# Altium footprint library WANGYU92100PcbLib.PcbLib: 392 footprints (part 12 of 25)
Each footprint in its own frame and in the unit in brackets; x right, y up, seen from the top. Pads: shape width x height; smd on the part's side, far side on the other; paste and mask are expansions set on the pad; w line width, h text height; cw(c..) or ccw(c..) is an arc to the next point about the centre after c.
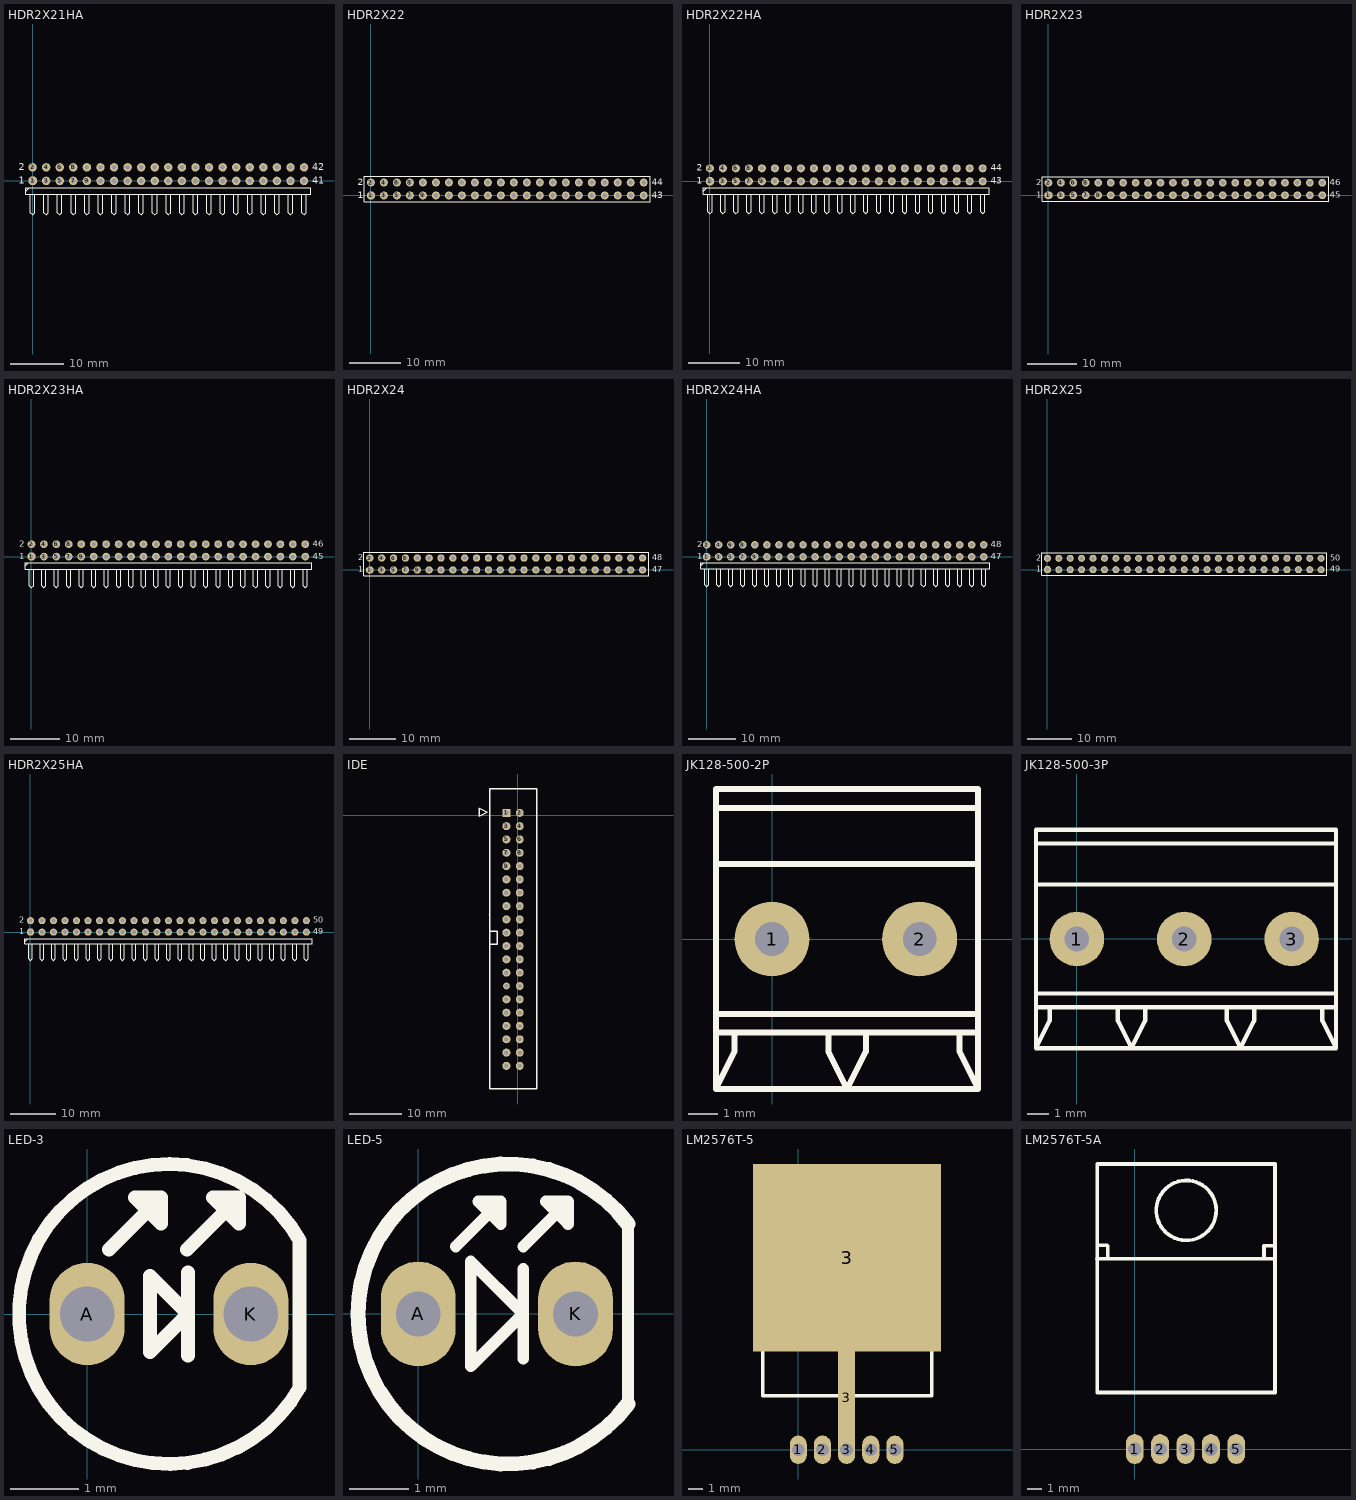
[diagram p11: the footprints below, top view; thin cyan lines are the x and y axes]

## HDR2X21HA [mil]
pads (42):
  oct 62x62 hole 35: 1(0,0)
  round 62 hole 35: 2(0,100) 3(100,0) 4(100,100) 5(200,0) 6(200,100) 7(300,0) 8(300,100) 9(400,0) 10(400,100) 11(500,0) 12(500,100) 13(600,0) 14(600,100) 15(700,0) 16(700,100) 17(800,0) 18(800,100) 19(900,0) 20(900,100) 21(1000,0) 22(1000,100) 23(1100,0) 24(1100,100) 25(1200,0) 26(1200,100) 27(1300,0) 28(1300,100) 29(1400,0) 30(1400,100) 31(1500,0) 32(1500,100) 33(1600,0) 34(1600,100) 35(1700,0) 36(1700,100) 37(1800,0) 38(1800,100) 39(1900,0) 40(1900,100) 41(2000,0) 42(2000,100)
Top Overlay:
  lines w8: -50,-75 -25,-50 ; -16.67,-100 -16.67,-233.33 0,-250 16.67,-233.33 16.67,-100 ; 83.33,-100 83.33,-233.33 100,-250 116.67,-233.33 116.67,-100 ; 183.33,-100 183.33,-233.33 200,-250 216.67,-233.33 216.67,-100 ; 283.33,-100 283.33,-233.33 300,-250 316.67,-233.33 316.67,-100 ; 383.33,-100 383.33,-233.33 400,-250 416.67,-233.33 416.67,-100 ; 483.33,-100 483.33,-233.33 500,-250 516.67,-233.33 516.67,-100 ; 583.33,-100 583.33,-233.33 600,-250 616.67,-233.33 616.67,-100 ; 683.33,-100 683.33,-233.33 700,-250 716.67,-233.33 716.67,-100 ; 783.33,-100 783.33,-233.33 800,-250 816.67,-233.33 816.67,-100 ; 883.33,-100 883.33,-233.33 900,-250 916.67,-233.33 916.67,-100 ; 983.33,-100 983.33,-233.33 1000,-250 1016.67,-233.33 1016.67,-100 ; 1083.33,-100 1083.33,-233.33 1100,-250 1116.67,-233.33 1116.67,-100 ; 1183.33,-100 1183.33,-233.33 1200,-250 1216.67,-233.33 1216.67,-100 ; 1283.33,-100 1283.33,-233.33 1300,-250 1316.67,-233.33 1316.67,-100 ; 1383.33,-100 1383.33,-233.33 1400,-250 1416.67,-233.33 1416.67,-100 ; 1483.33,-100 1483.33,-233.33 1500,-250 1516.67,-233.33 1516.67,-100 ; 1583.33,-100 1583.33,-233.33 1600,-250 1616.67,-233.33 1616.67,-100 ; 1683.33,-100 1683.33,-233.33 1700,-250 1716.67,-233.33 1716.67,-100 ; 1783.33,-100 1783.33,-233.33 1800,-250 1816.67,-233.33 1816.67,-100 ; 1883.33,-100 1883.33,-233.33 1900,-250 1916.67,-233.33 1916.67,-100 ; 1983.33,-100 1983.33,-233.33 2000,-250 2016.67,-233.33 2016.67,-100 ; -50,-100 -50,-50 2050,-50 2050,-100 -50,-100
  text "41" at 2060,-20 h50
  text "42" at 2060,80 h50
  text "1" at -100,-20 h50
  text "2" at -100,80 h50

## HDR2X22 [mil]
pads (44):
  oct 62x62 hole 35: 1(0,0)
  round 62 hole 35: 2(0,100) 3(100,0) 4(100,100) 5(200,0) 6(200,100) 7(300,0) 8(300,100) 9(400,0) 10(400,100) 11(500,0) 12(500,100) 13(600,0) 14(600,100) 15(700,0) 16(700,100) 17(800,0) 18(800,100) 19(900,0) 20(900,100) 21(1000,0) 22(1000,100) 23(1100,0) 24(1100,100) 25(1200,0) 26(1200,100) 27(1300,0) 28(1300,100) 29(1400,0) 30(1400,100) 31(1500,0) 32(1500,100) 33(1600,0) 34(1600,100) 35(1700,0) 36(1700,100) 37(1800,0) 38(1800,100) 39(1900,0) 40(1900,100) 41(2000,0) 42(2000,100) 43(2100,0) 44(2100,100)
Top Overlay:
  lines w8: -50,-50 2150,-50 2150,150 -50,150 -50,-50
  text "2" at -100,80 h50
  text "1" at -100,-20 h50
  text "44" at 2160,80 h50
  text "43" at 2160,-20 h50

## HDR2X22HA [mil]
pads (44):
  oct 62x62 hole 35: 1(0,0)
  round 62 hole 35: 2(0,100) 3(100,0) 4(100,100) 5(200,0) 6(200,100) 7(300,0) 8(300,100) 9(400,0) 10(400,100) 11(500,0) 12(500,100) 13(600,0) 14(600,100) 15(700,0) 16(700,100) 17(800,0) 18(800,100) 19(900,0) 20(900,100) 21(1000,0) 22(1000,100) 23(1100,0) 24(1100,100) 25(1200,0) 26(1200,100) 27(1300,0) 28(1300,100) 29(1400,0) 30(1400,100) 31(1500,0) 32(1500,100) 33(1600,0) 34(1600,100) 35(1700,0) 36(1700,100) 37(1800,0) 38(1800,100) 39(1900,0) 40(1900,100) 41(2000,0) 42(2000,100) 43(2100,0) 44(2100,100)
Top Overlay:
  lines w8: -50,-75 -25,-50 ; -16.67,-100 -16.67,-233.33 0,-250 16.67,-233.33 16.67,-100 ; 83.33,-100 83.33,-233.33 100,-250 116.67,-233.33 116.67,-100 ; 183.33,-100 183.33,-233.33 200,-250 216.67,-233.33 216.67,-100 ; 283.33,-100 283.33,-233.33 300,-250 316.67,-233.33 316.67,-100 ; 383.33,-100 383.33,-233.33 400,-250 416.67,-233.33 416.67,-100 ; 483.33,-100 483.33,-233.33 500,-250 516.67,-233.33 516.67,-100 ; 583.33,-100 583.33,-233.33 600,-250 616.67,-233.33 616.67,-100 ; 683.33,-100 683.33,-233.33 700,-250 716.67,-233.33 716.67,-100 ; 783.33,-100 783.33,-233.33 800,-250 816.67,-233.33 816.67,-100 ; 883.33,-100 883.33,-233.33 900,-250 916.67,-233.33 916.67,-100 ; 983.33,-100 983.33,-233.33 1000,-250 1016.67,-233.33 1016.67,-100 ; 1083.33,-100 1083.33,-233.33 1100,-250 1116.67,-233.33 1116.67,-100 ; 1183.33,-100 1183.33,-233.33 1200,-250 1216.67,-233.33 1216.67,-100 ; 1283.33,-100 1283.33,-233.33 1300,-250 1316.67,-233.33 1316.67,-100 ; 1383.33,-100 1383.33,-233.33 1400,-250 1416.67,-233.33 1416.67,-100 ; 1483.33,-100 1483.33,-233.33 1500,-250 1516.67,-233.33 1516.67,-100 ; 1583.33,-100 1583.33,-233.33 1600,-250 1616.67,-233.33 1616.67,-100 ; 1683.33,-100 1683.33,-233.33 1700,-250 1716.67,-233.33 1716.67,-100 ; 1783.33,-100 1783.33,-233.33 1800,-250 1816.67,-233.33 1816.67,-100 ; 1883.33,-100 1883.33,-233.33 1900,-250 1916.67,-233.33 1916.67,-100 ; 1983.33,-100 1983.33,-233.33 2000,-250 2016.67,-233.33 2016.67,-100 ; 2083.33,-100 2083.33,-233.33 2100,-250 2116.67,-233.33 2116.67,-100 ; -50,-100 2150,-100 2150,-50 -50,-50 -50,-100
  text "44" at 2160,80 h50
  text "43" at 2160,-20 h50
  text "1" at -100,-20 h50
  text "2" at -100,80 h50

## HDR2X23 [mil]
pads (46):
  oct 62x62 hole 35: 1(0,0)
  round 62 hole 35: 2(0,100) 3(100,0) 4(100,100) 5(200,0) 6(200,100) 7(300,0) 8(300,100) 9(400,0) 10(400,100) 11(500,0) 12(500,100) 13(600,0) 14(600,100) 15(700,0) 16(700,100) 17(800,0) 18(800,100) 19(900,0) 20(900,100) 21(1000,0) 22(1000,100) 23(1100,0) 24(1100,100) 25(1200,0) 26(1200,100) 27(1300,0) 28(1300,100) 29(1400,0) 30(1400,100) 31(1500,0) 32(1500,100) 33(1600,0) 34(1600,100) 35(1700,0) 36(1700,100) 37(1800,0) 38(1800,100) 39(1900,0) 40(1900,100) 41(2000,0) 42(2000,100) 43(2100,0) 44(2100,100) 45(2200,0) 46(2200,100)
Top Overlay:
  lines w8: -50,-50 2250,-50 2250,150 -50,150 -50,-50
  text "46" at 2260,80 h50
  text "45" at 2260,-20 h50
  text "1" at -100,-20 h50
  text "2" at -100,80 h50

## HDR2X23HA [mil]
pads (46):
  oct 62x62 hole 35: 1(0,0)
  round 62 hole 35: 2(0,100) 3(100,0) 4(100,100) 5(200,0) 6(200,100) 7(300,0) 8(300,100) 9(400,0) 10(400,100) 11(500,0) 12(500,100) 13(600,0) 14(600,100) 15(700,0) 16(700,100) 17(800,0) 18(800,100) 19(900,0) 20(900,100) 21(1000,0) 22(1000,100) 23(1100,0) 24(1100,100) 25(1200,0) 26(1200,100) 27(1300,0) 28(1300,100) 29(1400,0) 30(1400,100) 31(1500,0) 32(1500,100) 33(1600,0) 34(1600,100) 35(1700,0) 36(1700,100) 37(1800,0) 38(1800,100) 39(1900,0) 40(1900,100) 41(2000,0) 42(2000,100) 43(2100,0) 44(2100,100) 45(2200,0) 46(2200,100)
Top Overlay:
  lines w8: -50,-75 -25,-50 ; -16.67,-100 -16.67,-233.33 0,-250 16.67,-233.33 16.67,-100 ; 83.33,-100 83.33,-233.33 100,-250 116.67,-233.33 116.67,-100 ; 183.33,-100 183.33,-233.33 200,-250 216.67,-233.33 216.67,-100 ; 283.33,-100 283.33,-233.33 300,-250 316.67,-233.33 316.67,-100 ; 383.33,-100 383.33,-233.33 400,-250 416.67,-233.33 416.67,-100 ; 483.33,-100 483.33,-233.33 500,-250 516.67,-233.33 516.67,-100 ; 583.33,-100 583.33,-233.33 600,-250 616.67,-233.33 616.67,-100 ; 683.33,-100 683.33,-233.33 700,-250 716.67,-233.33 716.67,-100 ; 783.33,-100 783.33,-233.33 800,-250 816.67,-233.33 816.67,-100 ; 883.33,-100 883.33,-233.33 900,-250 916.67,-233.33 916.67,-100 ; 983.33,-100 983.33,-233.33 1000,-250 1016.67,-233.33 1016.67,-100 ; 1083.33,-100 1083.33,-233.33 1100,-250 1116.67,-233.33 1116.67,-100 ; 1183.33,-100 1183.33,-233.33 1200,-250 1216.67,-233.33 1216.67,-100 ; 1283.33,-100 1283.33,-233.33 1300,-250 1316.67,-233.33 1316.67,-100 ; 1383.33,-100 1383.33,-233.33 1400,-250 1416.67,-233.33 1416.67,-100 ; 1483.33,-100 1483.33,-233.33 1500,-250 1516.67,-233.33 1516.67,-100 ; 1583.33,-100 1583.33,-233.33 1600,-250 1616.67,-233.33 1616.67,-100 ; 1683.33,-100 1683.33,-233.33 1700,-250 1716.67,-233.33 1716.67,-100 ; 1783.33,-100 1783.33,-233.33 1800,-250 1816.67,-233.33 1816.67,-100 ; 1883.33,-100 1883.33,-233.33 1900,-250 1916.67,-233.33 1916.67,-100 ; 1983.33,-100 1983.33,-233.33 2000,-250 2016.67,-233.33 2016.67,-100 ; 2083.33,-100 2083.33,-233.33 2100,-250 2116.67,-233.33 2116.67,-100 ; 2183.33,-100 2183.33,-233.33 2200,-250 2216.67,-233.33 2216.67,-100 ; -50,-100 2250,-100 2250,-50 -50,-50 -50,-100
  text "46" at 2260,80 h50
  text "45" at 2260,-20 h50
  text "1" at -100,-20 h50
  text "2" at -100,80 h50

## HDR2X24 [mil]
pads (48):
  oct 62x62 hole 35: 1(0,0)
  round 62 hole 35: 2(0,100) 3(100,0) 4(100,100) 5(200,0) 6(200,100) 7(300,0) 8(300,100) 9(400,0) 10(400,100) 11(500,0) 12(500,100) 13(600,0) 14(600,100) 15(700,0) 16(700,100) 17(800,0) 18(800,100) 19(900,0) 20(900,100) 21(1000,0) 22(1000,100) 23(1100,0) 24(1100,100) 25(1200,0) 26(1200,100) 27(1300,0) 28(1300,100) 29(1400,0) 30(1400,100) 31(1500,0) 32(1500,100) 33(1600,0) 34(1600,100) 35(1700,0) 36(1700,100) 37(1800,0) 38(1800,100) 39(1900,0) 40(1900,100) 41(2000,0) 42(2000,100) 43(2100,0) 44(2100,100) 45(2200,0) 46(2200,100) 47(2300,0) 48(2300,100)
Top Overlay:
  lines w8: -50,-50 -50,150 2350,150 2350,-50 -50,-50
  text "47" at 2380,-20 h50
  text "48" at 2380,80 h50
  text "1" at -100,-20 h50
  text "2" at -100,80 h50

## HDR2X24HA [mil]
pads (48):
  oct 62x62 hole 35: 1(0,0)
  round 62 hole 35: 2(0,100) 3(100,0) 4(100,100) 5(200,0) 6(200,100) 7(300,0) 8(300,100) 9(400,0) 10(400,100) 11(500,0) 12(500,100) 13(600,0) 14(600,100) 15(700,0) 16(700,100) 17(800,0) 18(800,100) 19(900,0) 20(900,100) 21(1000,0) 22(1000,100) 23(1100,0) 24(1100,100) 25(1200,0) 26(1200,100) 27(1300,0) 28(1300,100) 29(1400,0) 30(1400,100) 31(1500,0) 32(1500,100) 33(1600,0) 34(1600,100) 35(1700,0) 36(1700,100) 37(1800,0) 38(1800,100) 39(1900,0) 40(1900,100) 41(2000,0) 42(2000,100) 43(2100,0) 44(2100,100) 45(2200,0) 46(2200,100) 47(2300,0) 48(2300,100)
Top Overlay:
  lines w8: -50,-75 -25,-50 ; -16.67,-100 -16.67,-233.33 0,-250 16.67,-233.33 16.67,-100 ; 83.33,-100 83.33,-233.33 100,-250 116.67,-233.33 116.67,-100 ; 183.33,-100 183.33,-233.33 200,-250 216.67,-233.33 216.67,-100 ; 283.33,-100 283.33,-233.33 300,-250 316.67,-233.33 316.67,-100 ; 383.33,-100 383.33,-233.33 400,-250 416.67,-233.33 416.67,-100 ; 483.33,-100 483.33,-233.33 500,-250 516.67,-233.33 516.67,-100 ; 583.33,-100 583.33,-233.33 600,-250 616.67,-233.33 616.67,-100 ; 683.33,-100 683.33,-233.33 700,-250 716.67,-233.33 716.67,-100 ; 783.33,-100 783.33,-233.33 800,-250 816.67,-233.33 816.67,-100 ; 883.33,-100 883.33,-233.33 900,-250 916.67,-233.33 916.67,-100 ; 983.33,-100 983.33,-233.33 1000,-250 1016.67,-233.33 1016.67,-100 ; 1083.33,-100 1083.33,-233.33 1100,-250 1116.67,-233.33 1116.67,-100 ; 1183.33,-100 1183.33,-233.33 1200,-250 1216.67,-233.33 1216.67,-100 ; 1283.33,-100 1283.33,-233.33 1300,-250 1316.67,-233.33 1316.67,-100 ; 1383.33,-100 1383.33,-233.33 1400,-250 1416.67,-233.33 1416.67,-100 ; 1483.33,-100 1483.33,-233.33 1500,-250 1516.67,-233.33 1516.67,-100 ; 1583.33,-100 1583.33,-233.33 1600,-250 1616.67,-233.33 1616.67,-100 ; 1683.33,-100 1683.33,-233.33 1700,-250 1716.67,-233.33 1716.67,-100 ; 1783.33,-100 1783.33,-233.33 1800,-250 1816.67,-233.33 1816.67,-100 ; 1883.33,-100 1883.33,-233.33 1900,-250 1916.67,-233.33 1916.67,-100 ; 1983.33,-100 1983.33,-233.33 2000,-250 2016.67,-233.33 2016.67,-100 ; 2083.33,-100 2083.33,-233.33 2100,-250 2116.67,-233.33 2116.67,-100 ; 2183.33,-100 2183.33,-233.33 2200,-250 2216.67,-233.33 2216.67,-100 ; 2283.33,-100 2283.33,-233.33 2300,-250 2316.67,-233.33 2316.67,-100 ; -50,-100 2350,-100 2350,-50 -50,-50 -50,-100
  text "2" at -80,80 h50
  text "1" at -80,-20 h50
  text "47" at 2360,-20 h50
  text "48" at 2360,80 h50

## HDR2X25 [mil]
pads (50):
  oct 62x62 hole 35: 1(0,0)
  round 62 hole 35: 2(0,100) 3(100,0) 4(100,100) 5(200,0) 6(200,100) 7(300,0) 8(300,100) 9(400,0) 10(400,100) 11(500,0) 12(500,100) 13(600,0) 14(600,100) 15(700,0) 16(700,100) 17(800,0) 18(800,100) 19(900,0) 20(900,100) 21(1000,0) 22(1000,100) 23(1100,0) 24(1100,100) 25(1200,0) 26(1200,100) 27(1300,0) 28(1300,100) 29(1400,0) 30(1400,100) 31(1500,0) 32(1500,100) 33(1600,0) 34(1600,100) 35(1700,0) 36(1700,100) 37(1800,0) 38(1800,100) 39(1900,0) 40(1900,100) 41(2000,0) 42(2000,100) 43(2100,0) 44(2100,100) 45(2200,0) 46(2200,100) 47(2300,0) 48(2300,100) 49(2400,0) 50(2400,100)
Top Overlay:
  lines w8: -50,-50 2450,-50 2450,150 -50,150 -50,-50
  text "50" at 2480,80 h50
  text "49" at 2480,-20 h50
  text "1" at -100,-20 h50
  text "2" at -100,80 h50

## HDR2X25HA [mil]
pads (50):
  oct 62x62 hole 35: 1(0,0)
  round 62 hole 35: 2(0,100) 3(100,0) 4(100,100) 5(200,0) 6(200,100) 7(300,0) 8(300,100) 9(400,0) 10(400,100) 11(500,0) 12(500,100) 13(600,0) 14(600,100) 15(700,0) 16(700,100) 17(800,0) 18(800,100) 19(900,0) 20(900,100) 21(1000,0) 22(1000,100) 23(1100,0) 24(1100,100) 25(1200,0) 26(1200,100) 27(1300,0) 28(1300,100) 29(1400,0) 30(1400,100) 31(1500,0) 32(1500,100) 33(1600,0) 34(1600,100) 35(1700,0) 36(1700,100) 37(1800,0) 38(1800,100) 39(1900,0) 40(1900,100) 41(2000,0) 42(2000,100) 43(2100,0) 44(2100,100) 45(2200,0) 46(2200,100) 47(2300,0) 48(2300,100) 49(2400,0) 50(2400,100)
Top Overlay:
  lines w8: -50,-83.33 -25,-58.33 ; -16.67,-100 -16.67,-233.33 0,-250 16.67,-233.33 16.67,-100 ; 83.33,-100 83.33,-233.33 100,-250 116.67,-233.33 116.67,-100 ; 183.33,-100 183.33,-233.33 200,-250 216.67,-233.33 216.67,-100 ; 283.33,-100 283.33,-233.33 300,-250 316.67,-233.33 316.67,-100 ; 383.33,-100 383.33,-233.33 400,-250 416.67,-233.33 416.67,-100 ; 483.33,-100 483.33,-233.33 500,-250 516.67,-233.33 516.67,-100 ; 583.33,-100 583.33,-233.33 600,-250 616.67,-233.33 616.67,-100 ; 683.33,-100 683.33,-233.33 700,-250 716.67,-233.33 716.67,-100 ; 783.33,-100 783.33,-233.33 800,-250 816.67,-233.33 816.67,-100 ; 883.33,-100 883.33,-233.33 900,-250 916.67,-233.33 916.67,-100 ; 983.33,-100 983.33,-233.33 1000,-250 1016.67,-233.33 1016.67,-100 ; 1083.33,-100 1083.33,-233.33 1100,-250 1116.67,-233.33 1116.67,-100 ; 1183.33,-100 1183.33,-233.33 1200,-250 1216.67,-233.33 1216.67,-100 ; 1283.33,-100 1283.33,-233.33 1300,-250 1316.67,-233.33 1316.67,-100 ; 1383.33,-100 1383.33,-233.33 1400,-250 1416.67,-233.33 1416.67,-100 ; 1483.33,-100 1483.33,-233.33 1500,-250 1516.67,-233.33 1516.67,-100 ; 1583.33,-100 1583.33,-233.33 1600,-250 1616.67,-233.33 1616.67,-100 ; 1683.33,-100 1683.33,-233.33 1700,-250 1716.67,-233.33 1716.67,-100 ; 1783.33,-100 1783.33,-233.33 1800,-250 1816.67,-233.33 1816.67,-100 ; 1883.33,-100 1883.33,-233.33 1900,-250 1916.67,-233.33 1916.67,-100 ; 1983.33,-100 1983.33,-233.33 2000,-250 2016.67,-233.33 2016.67,-100 ; 2083.33,-100 2083.33,-233.33 2100,-250 2116.67,-233.33 2116.67,-100 ; 2183.33,-100 2183.33,-233.33 2200,-250 2216.67,-233.33 2216.67,-100 ; 2283.33,-100 2283.33,-233.33 2300,-250 2316.67,-233.33 2316.67,-100 ; 2383.33,-100 2383.33,-233.33 2400,-250 2416.67,-233.33 2416.67,-100 ; -50,-100 -50,-58.33 2450,-58.33 2450,-100 -50,-100
  text "2" at -100,80 h50
  text "1" at -100,-20 h50
  text "49" at 2460,-20 h50
  text "50" at 2460,80 h50

## IDE [mil]
pads (40):
  rect 60x60 hole 33: 1(-86.18,17.24)
  round 60 hole 33: 2(13.82,17.24) 3(-86.18,-82.76) 4(13.82,-82.76) 5(-86.18,-182.76) 6(13.82,-182.76) 7(-86.18,-282.76) 8(13.82,-282.76) 9(-86.18,-382.76) 10(13.82,-382.76) 11(-86.18,-482.76) 12(13.82,-482.76) 13(-86.18,-582.76) 14(13.82,-582.76) 15(-86.18,-682.76) 16(13.82,-682.76) 17(-86.18,-782.76) 18(13.82,-782.76) 19(-86.18,-882.76) 20(13.82,-882.76) 21(-86.18,-982.76) 22(13.82,-982.76) 23(-86.18,-1082.76) 24(13.82,-1082.76) 25(-86.18,-1182.76) 26(13.82,-1182.76) 28(13.82,-1282.76) 29(-86.18,-1382.76) 30(13.82,-1382.76) 31(-86.18,-1482.76) 32(13.82,-1482.76) 33(-86.18,-1582.76) 34(13.82,-1582.76) 35(-86.18,-1682.76) 36(13.82,-1682.76) 37(-86.18,-1782.76) 38(13.82,-1782.76) 39(-86.18,-1882.76) 40(13.82,-1882.76)
  round 51.18 hole 27.56: 27(-86.18,-1282.76)
Top Overlay:
  lines w10: -215.63,-870 -155,-870 -155,-970 -213.27,-970 ; -213.74,-746.53 -211.38,-744.17 ; -290.96,-8.5 -290.96,51.5 -230.96,21.5 -290.96,-8.5 ; -212.16,-2055.98 142.16,-2055.98 142.16,195.98 -212.16,195.98 -212.16,-2055.98

## JK128-500-2P [mil]
pads (2):
  round 100 hole 45: 1(0,0) 2(196.85,0)
Top Overlay:
  lines w8: -75,-125 275,-125 ; -75,-100 275,-100 ; -75,100 275,100 ; -75,175 275,175 ; -50,-125 -50,-150 -75,-200 ; 75,-125 75,-150 100,-200 125,-150 125,-125 ; 250,-125 250,-150 275,-200 ; -75,-200 -75,200 275,200 275,-200 ; -75,-200 275,-200

## JK128-500-3P [mil]
pads (3):
  round 100 hole 45: 1(0,-0.02) 2(196.85,-0.02) 3(393.7,-0.02)
Top Overlay:
  lines w8: -75,-125.02 225,-125.02 275,-125.02 275,-150.02 300,-200.02 325,-150.02 325,-125.02 ; -75,99.98 225,99.98 275,99.98 ; -75,174.98 225,174.98 275,174.98 ; -50,-125.02 -50,-150.02 -75,-200.02 ; 75,-125.02 75,-150.02 100,-200.02 125,-150.02 125,-125.02 425,-125.02 475,-125.02 ; 125,-200.02 425,-200.02 475,-200.02 ; 125,-100.02 425,-100.02 475,-100.02 ; 125,99.98 425,99.98 475,99.98 ; 125,174.98 425,174.98 475,174.98 ; 125,199.98 425,199.98 475,199.98 475,149.98 475,-150.02 475,-200.02 ; 275,-200.02 225,-200.02 -75,-200.02 ; 275,-100.02 225,-100.02 -75,-100.02 ; 275,199.98 225,199.98 -75,199.98 -75,-100.02 ; 450,-125.02 450,-150.02 475,-200.02 ; -75,-200.02 -75,-100.02

## LED-3 [mm]
pads (2):
  oval 1.1x1.5 hole 0.8: A(0,0) K(2.4,0)
Top Overlay:
  lines w0.203: 0.322,0.946 1.084,1.708 ; 1.465,0.946 2.227,1.708 ; 1.479,-0.61 1.479,0.61 ; 3.116,-1.073 3.116,1.082 ccw(c1.2,0) 3.119,-1.076 ; 1.084,1.708 1.084,1.327 0.703,1.708 1.084,1.708 ; 2.227,1.708 1.846,1.708 2.227,1.327 2.227,1.708 ; 0.921,-0.559 0.921,0.559 1.479,0 0.921,-0.559

## LED-5 [mil]
pads (2):
  oval 50x70 hole 30: A(0,0) K(105,0)
Top Overlay:
  lines w7.78: 25,45 55,75 ; 70,-30 70,30 ; 70,45 100,75 ; 140,-60.15 140,60 ; 55,75 40,75 55,60 55,75 ; 100,75 85,75 100,60 100,75 ; 35,-35 70,0 35,35 35,-35
  lines w10: 140,-60.15 cw(c59.9,-0.07) 140,60

## LM2576T-5 [mm]
pads (7):
  oval 1.2x2 hole 0.9: 1(0,0) 2(1.7,0) 3(3.4,0) 4(5.1,0) 5(6.8,0)
  rect 1.2x8 smd: 3(3.404,3.658)
  rect 13.208x13.208 smd: 3(3.429,13.513)
Top Overlay:
  circle w0.254: c3.452,15.987 r2.007
  lines w0.254: -2.517,12.745 9.378,12.745 9.387,12.735 ; -2.513,13.65 -1.857,13.65 ; -1.831,13.624 -1.857,13.65 ; -1.806,12.745 -1.806,13.599 -1.857,13.65 ; 8.659,12.745 8.659,13.624 9.387,13.624 ; -2.513,3.795 9.387,3.795 9.387,19.095 -2.513,19.095 -2.513,3.795

## LM2576T-5A [mm]
pads (5):
  oval 1.2x2 hole 0.9: 1(0,0) 2(1.7,0) 3(3.4,0) 4(5.1,0) 5(6.8,0)
Top Overlay:
  circle w0.254: c3.452,15.987 r2.007
  lines w0.254: -2.517,12.745 9.378,12.745 9.387,12.735 ; -2.513,13.65 -1.857,13.65 ; -1.831,13.624 -1.857,13.65 ; -1.806,12.745 -1.806,13.599 -1.857,13.65 ; 8.659,12.745 8.659,13.624 9.387,13.624 ; -2.513,3.795 9.387,3.795 9.387,19.095 -2.513,19.095 -2.513,3.795